# Altium schematic symbol library TPS3780D.Schlib: 1 symbol
Pins are listed as number, name and electrical type; pins without a type are passive.

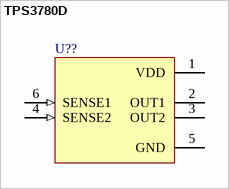
[diagram p0: symbol TPS3780D]

## TPS3780D
designator U??
pins: 1 VDD, 2 OUT1 (oc), 3 OUT2 (oc), 4 SENSE2 (in), 5 GND, 6 SENSE1 (in)